# Altium footprint library DIMNodeCN25_08_2012.PcbLib: 46 footprints (part 3 of 3)
Each footprint in its own frame and in the unit in brackets; x right, y up, seen from the top. Pads: shape width x height; smd on the part's side, far side on the other; paste and mask are expansions set on the pad; w line width, h text height; cw(c..) or ccw(c..) is an arc to the next point about the centre after c.
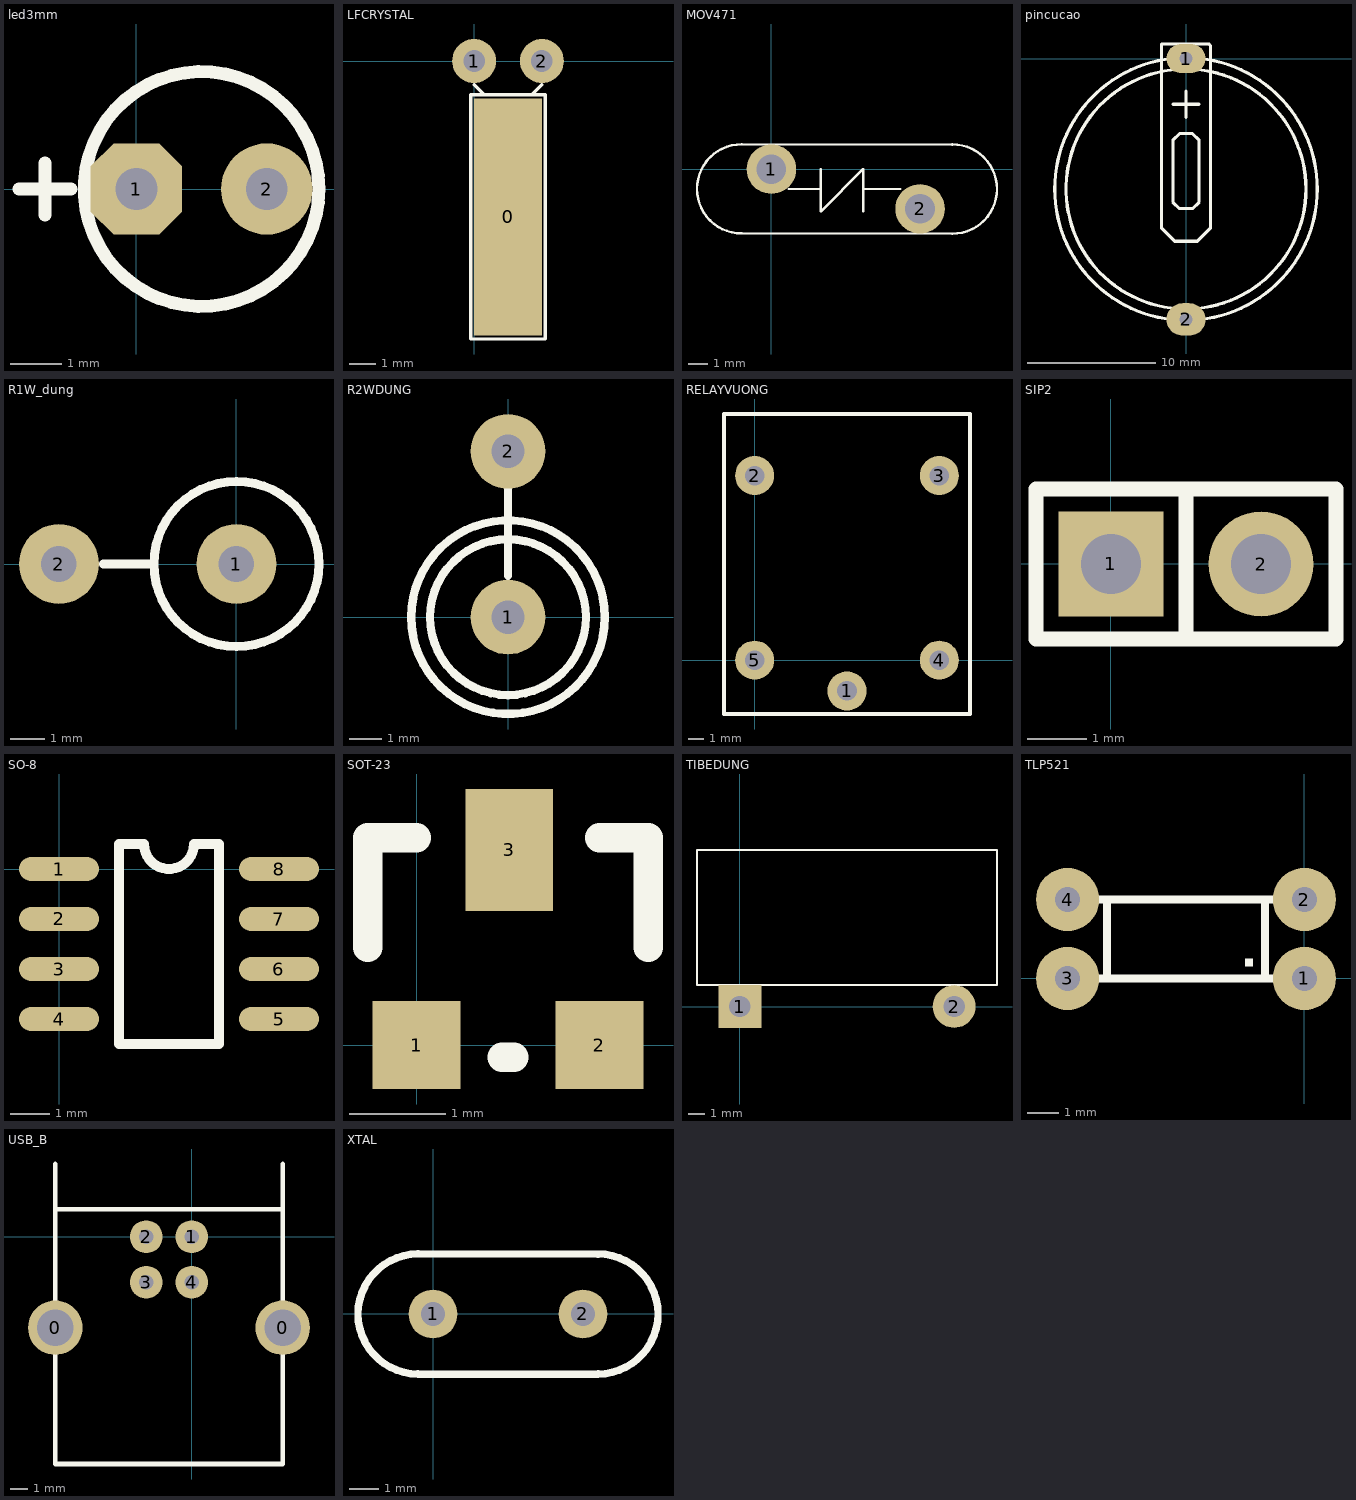
[diagram p2: the footprints below, top view; thin cyan lines are the x and y axes]

## led3mm [mil]
pads (2):
  oct 70x70 hole 32: 1(0,0)
  round 70 hole 32: 2(100,0)
Top Overlay:
  circle w10: c50,0 r90
  lines w10: -90,0 -50,0 ; -70,-20 -70,20

## LFCRYSTAL [mil]
pads (3):
  rect 100x350 smd: 0(50,-230)
  round 65 hole 32: 1(0,0) 2(100,0)
Top Overlay:
  lines w5: 0,-35 15,-50 ; 85,-50 100,-35 ; -5,-410 105,-410 105,-50 -5,-50 -5,-410

## MOV471 [mil]
pads (2):
  round 100 hole 60: 1(0,0) 2(300,-80)
Top Overlay:
  lines w5: -60,50 365,49.72 ; -60,50.28 ccw(c-60,-39.72) -60,-129.72 365,-130 ; 35,-40 100,-40 ; 100,0 100,-85 185,0 185,-85 ; 185,-40 260,-40 ; 365,-130.28 ccw(c365,-40.14) 365,50

## pincucao [mil]
pads (2):
  oval 120x90 hole 40: 1(0,0)
  oval 120x100 hole 40: 2(0,-800)
Top Overlay:
  circle w10: c0,-400 r402.65
  circle w10: c0,-400 r367.97
  lines w10: -40,-140 40,-140 ; 0,-180 0,-100 ; 25,-560 -35,-560 ; -35,-560 -75,-520 -75,-5 -75,45 70,45 75,40 75,-5 75,-520 35,-560 -35,-560 ; -40,-440 -40,-250 -20,-230 20,-230 40,-250 40,-440 20,-460 10,-460 -20,-460 -40,-440

## R1W_dung [mil]
pads (2):
  round 90 hole 40: 1(0,0) 2(-200,0)
Top Overlay:
  circle w10: c0,0 r93.01
  lines w10: -150,0 -95,0

## R2WDUNG [mil]
pads (2):
  round 90 hole 40: 1(0,0) 2(0,200)
Top Overlay:
  circle w10: c0,0 r116.73
  circle w10: c0,0 r93.94
  lines w10: 0,50 0,200

## RELAYVUONG [mm]
pads (5):
  round 2.54 hole 1.27: 1(6,-2) 2(0,12) 3(12,12) 4(12,0) 5(0,0)
Top Overlay:
  lines w0.254: -2,-3.5 14,-3.5 14,16 -2,16 -2,-3.5

## SIP2 [mil]
pads (2):
  rect 70x70 hole 40: 1(0,0)
  round 70 hole 40: 2(100,0)
Top Overlay:
  lines w10: 50,-50 50,50 ; -50,-50 -50,50 150,50 150,-50 -50,-50

## SO-8 [mil]
pads (8):
  oval 80x24 smd: 1(0,0) 2(0,-50) 3(0,-100) 4(0,-150) 5(220,-150) 6(220,-100) 7(220,-50) 8(220,0)
Top Overlay:
  lines w10: 60,-175 60,25 85,25 ccw(c110,25) 135,25 160,25 160,-175 60,-175

## SOT-23 [mil]
pads (3):
  rect 36x36 smd: 1(0,0) 2(75,0)
  rect 36x50 smd: 3(38,80)
Top Overlay:
  lines w12: -20,40 -20,85 0,85 ; 35,-5 40,-5 ; 75,85 95,85 95,40

## TIBEDUNG [mil]
pads (2):
  rect 100x100 hole 50: 1(0,0)
  round 100 hole 50: 2(500,0)
Top Overlay:
  lines w5: -100,50 -100,365 600,365 600,50 -100,50

## TLP521 [mil]
pads (4):
  round 80 hole 32: 1(0,0) 2(0,100) 3(-300,0) 4(-300,100)
Top Overlay:
  region: -65,25 -75,25 -75,15 -65,15
  lines w10: -270,0 -50,0 ; -270,100 -250,100 ; -250,0 -250,100 ; -30,0 -50,0 ; -30,100 -50,100 ; -250,100 -50,100 ; -50,0 -50,100

## USB_B [mil]
pads (6):
  round 120 hole 80: 0(-300,-200) 0(200,-200)
  round 72 hole 32: 1(0,0) 2(-100,0) 3(-100,-100) 4(0,-100)
Top Overlay:
  lines w10: -300,60 200,60 ; -300,160 -300,-500 200,-500 200,160

## XTAL [mil]
pads (2):
  round 65 hole 32: 1(0,0) 2(200,0)
Top Overlay:
  lines w10: 220,-80 ccw(c220,0) 220,80 ; 220,-80 ccw(c220,0) 220,80 ; 220,-80 -20,-80 cw(c-20,0) -20,80 220,80